# Altium footprint library con-leotronics.PCBLIB: 93 footprints (part 7 of 8)
Each footprint in its own frame and in the unit in brackets; x right, y up, seen from the top. Pads: shape width x height; smd on the part's side, far side on the other; paste and mask are expansions set on the pad; w line width, h text height; cw(c..) or ccw(c..) is an arc to the next point about the centre after c.
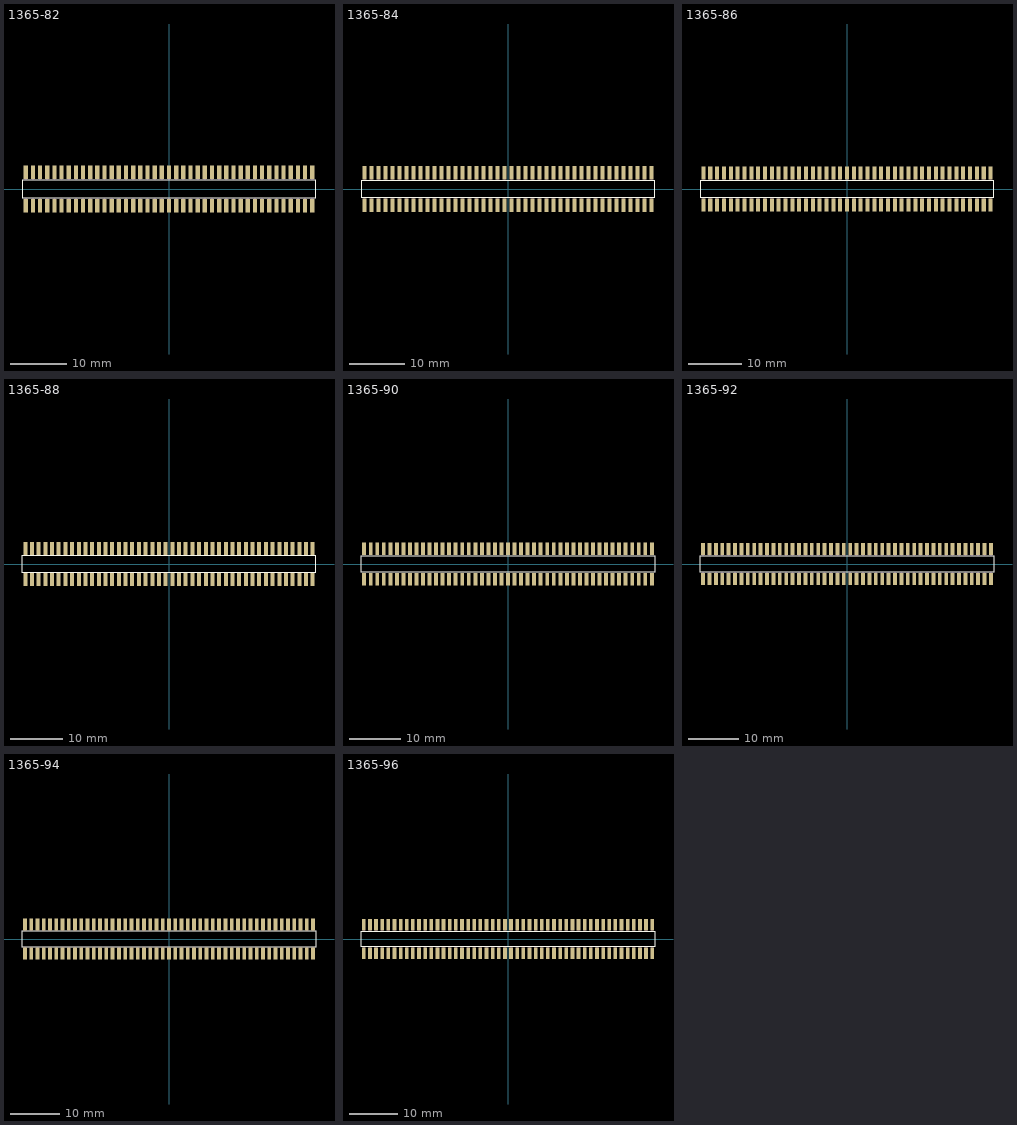
[diagram p6: the footprints below, top view; thin cyan lines are the x and y axes]

## 1365-82 [mm]
pads (82):
  rect 0.76x2.4 smd: 1(-25.4,-2.95) 2(-25.4,2.95) 3(-24.13,-2.95) 4(-24.13,2.95) 5(-22.86,-2.95) 6(-22.86,2.95) 7(-21.59,-2.95) 8(-21.59,2.95) 9(-20.32,-2.95) 10(-20.32,2.95) 11(-19.05,-2.95) 12(-19.05,2.95) 13(-17.78,-2.95) 14(-17.78,2.95) 15(-16.51,-2.95) 16(-16.51,2.95) 17(-15.24,-2.95) 18(-15.24,2.95) 19(-13.97,-2.95) 20(-13.97,2.95) 21(-12.7,-2.95) 22(-12.7,2.95) 23(-11.43,-2.95) 24(-11.43,2.95) 25(-10.16,-2.95) 26(-10.16,2.95) 27(-8.89,-2.95) 28(-8.89,2.95) 29(-7.62,-2.95) 30(-7.62,2.95) 31(-6.35,-2.95) 32(-6.35,2.95) 33(-5.08,-2.95) 34(-5.08,2.95) 35(-3.81,-2.95) 36(-3.81,2.95) 37(-2.54,-2.95) 38(-2.54,2.95) 39(-1.27,-2.95) 40(-1.27,2.95) 41(0,-2.95) 42(0,2.95) 43(1.27,-2.95) 44(1.27,2.95) 45(2.54,-2.95) 46(2.54,2.95) 47(3.81,-2.95) 48(3.81,2.95) 49(5.08,-2.95) 50(5.08,2.95) 51(6.35,-2.95) 52(6.35,2.95) 53(7.62,-2.95) 54(7.62,2.95) 55(8.89,-2.95) 56(8.89,2.95) 57(10.16,-2.95) 58(10.16,2.95) 59(11.43,-2.95) 60(11.43,2.95) 61(12.7,-2.95) 62(12.7,2.95) 63(13.97,-2.95) 64(13.97,2.95) 65(15.24,-2.95) 66(15.24,2.95) 67(16.51,-2.95) 68(16.51,2.95) 69(17.78,-2.95) 70(17.78,2.95) 71(19.05,-2.95) 72(19.05,2.95) 73(20.32,-2.95) 74(20.32,2.95) 75(21.59,-2.95) 76(21.59,2.95) 77(22.86,-2.95) 78(22.86,2.95) 79(24.13,-2.95) 80(24.13,2.95) 81(25.4,-2.95) 82(25.4,2.95)
Top Overlay:
  lines w0.203: -25.935,-1.63 25.93,-1.63 25.93,1.63 -25.935,1.63 -25.935,-1.63
Mechanical 16:
  rectangle: -25.6,1.725 -25.2,2.75
  region: -25.2,-1.725 -25.6,-1.725 -25.6,-2.75 -25.2,-2.75
  rectangle: -24.33,1.725 -23.93,2.75
  region: -23.93,-1.725 -24.33,-1.725 -24.33,-2.75 -23.93,-2.75
  rectangle: -23.06,1.725 -22.66,2.75
  region: -22.66,-1.725 -23.06,-1.725 -23.06,-2.75 -22.66,-2.75
  rectangle: -21.79,1.725 -21.39,2.75
  region: -21.39,-1.725 -21.79,-1.725 -21.79,-2.75 -21.39,-2.75
  rectangle: -20.52,1.725 -20.12,2.75
  region: -20.12,-1.725 -20.52,-1.725 -20.52,-2.75 -20.12,-2.75
  rectangle: -19.25,1.725 -18.85,2.75
  region: -18.85,-1.725 -19.25,-1.725 -19.25,-2.75 -18.85,-2.75
  rectangle: -17.98,1.725 -17.58,2.75
  region: -17.58,-1.725 -17.98,-1.725 -17.98,-2.75 -17.58,-2.75
  rectangle: -16.71,1.725 -16.31,2.75
  region: -16.31,-1.725 -16.71,-1.725 -16.71,-2.75 -16.31,-2.75
  rectangle: -15.44,1.725 -15.04,2.75
  region: -15.04,-1.725 -15.44,-1.725 -15.44,-2.75 -15.04,-2.75
  rectangle: -14.17,1.725 -13.77,2.75
  region: -13.77,-1.725 -14.17,-1.725 -14.17,-2.75 -13.77,-2.75
  rectangle: -12.9,1.725 -12.5,2.75
  region: -12.5,-1.725 -12.9,-1.725 -12.9,-2.75 -12.5,-2.75
  rectangle: -11.63,1.725 -11.23,2.75
  region: -11.23,-1.725 -11.63,-1.725 -11.63,-2.75 -11.23,-2.75
  rectangle: -10.36,1.725 -9.96,2.75
  region: -9.96,-1.725 -10.36,-1.725 -10.36,-2.75 -9.96,-2.75
  rectangle: -9.09,1.725 -8.69,2.75
  region: -8.69,-1.725 -9.09,-1.725 -9.09,-2.75 -8.69,-2.75
  rectangle: -7.82,1.725 -7.42,2.75
  region: -7.42,-1.725 -7.82,-1.725 -7.82,-2.75 -7.42,-2.75
  rectangle: -6.55,1.725 -6.15,2.75
  region: -6.15,-1.725 -6.55,-1.725 -6.55,-2.75 -6.15,-2.75
  rectangle: -5.28,1.725 -4.88,2.75
  region: -4.88,-1.725 -5.28,-1.725 -5.28,-2.75 -4.88,-2.75
  rectangle: -4.01,1.725 -3.61,2.75
  region: -3.61,-1.725 -4.01,-1.725 -4.01,-2.75 -3.61,-2.75
  rectangle: -2.74,1.725 -2.34,2.75
  region: -2.34,-1.725 -2.74,-1.725 -2.74,-2.75 -2.34,-2.75
  rectangle: -1.47,1.725 -1.07,2.75
  region: -1.07,-1.725 -1.47,-1.725 -1.47,-2.75 -1.07,-2.75
  rectangle: -0.2,1.725 0.2,2.75
  region: 0.2,-1.725 -0.2,-1.725 -0.2,-2.75 0.2,-2.75
  rectangle: 1.07,1.725 1.47,2.75
  region: 1.47,-1.725 1.07,-1.725 1.07,-2.75 1.47,-2.75
  rectangle: 2.34,1.725 2.74,2.75
  region: 2.74,-1.725 2.34,-1.725 2.34,-2.75 2.74,-2.75
  rectangle: 3.61,1.725 4.01,2.75
  region: 4.01,-1.725 3.61,-1.725 3.61,-2.75 4.01,-2.75
  rectangle: 4.88,1.725 5.28,2.75
  region: 5.28,-1.725 4.88,-1.725 4.88,-2.75 5.28,-2.75
  rectangle: 6.15,1.725 6.55,2.75
  region: 6.55,-1.725 6.15,-1.725 6.15,-2.75 6.55,-2.75
  rectangle: 7.42,1.725 7.82,2.75
  region: 7.82,-1.725 7.42,-1.725 7.42,-2.75 7.82,-2.75
  rectangle: 8.69,1.725 9.09,2.75
  region: 9.09,-1.725 8.69,-1.725 8.69,-2.75 9.09,-2.75
  rectangle: 9.96,1.725 10.36,2.75
  region: 10.36,-1.725 9.96,-1.725 9.96,-2.75 10.36,-2.75
  rectangle: 11.23,1.725 11.63,2.75
  region: 11.63,-1.725 11.23,-1.725 11.23,-2.75 11.63,-2.75
  rectangle: 12.5,1.725 12.9,2.75
  region: 12.9,-1.725 12.5,-1.725 12.5,-2.75 12.9,-2.75
  rectangle: 13.77,1.725 14.17,2.75
  region: 14.17,-1.725 13.77,-1.725 13.77,-2.75 14.17,-2.75
  rectangle: 15.04,1.725 15.44,2.75
  region: 15.44,-1.725 15.04,-1.725 15.04,-2.75 15.44,-2.75
  rectangle: 16.31,1.725 16.71,2.75
  region: 16.71,-1.725 16.31,-1.725 16.31,-2.75 16.71,-2.75
  rectangle: 17.58,1.725 17.98,2.75
  region: 17.98,-1.725 17.58,-1.725 17.58,-2.75 17.98,-2.75
  rectangle: 18.85,1.725 19.25,2.75
  region: 19.25,-1.725 18.85,-1.725 18.85,-2.75 19.25,-2.75
  rectangle: 20.12,1.725 20.52,2.75
  region: 20.52,-1.725 20.12,-1.725 20.12,-2.75 20.52,-2.75
  rectangle: 21.39,1.725 21.79,2.75
  region: 21.79,-1.725 21.39,-1.725 21.39,-2.75 21.79,-2.75
  rectangle: 22.66,1.725 23.06,2.75
  region: 23.06,-1.725 22.66,-1.725 22.66,-2.75 23.06,-2.75
  rectangle: 23.93,1.725 24.33,2.75
  region: 24.33,-1.725 23.93,-1.725 23.93,-2.75 24.33,-2.75
  rectangle: 25.2,1.725 25.6,2.75
  region: 25.6,-1.725 25.2,-1.725 25.2,-2.75 25.6,-2.75

## 1365-84 [mm]
pads (84):
  rect 0.76x2.4 smd: 1(-26.035,-2.95) 2(-26.035,2.95) 3(-24.765,-2.95) 4(-24.765,2.95) 5(-23.495,-2.95) 6(-23.495,2.95) 7(-22.225,-2.95) 8(-22.225,2.95) 9(-20.955,-2.95) 10(-20.955,2.95) 11(-19.685,-2.95) 12(-19.685,2.95) 13(-18.415,-2.95) 14(-18.415,2.95) 15(-17.145,-2.95) 16(-17.145,2.95) 17(-15.875,-2.95) 18(-15.875,2.95) 19(-14.605,-2.95) 20(-14.605,2.95) 21(-13.335,-2.95) 22(-13.335,2.95) 23(-12.065,-2.95) 24(-12.065,2.95) 25(-10.795,-2.95) 26(-10.795,2.95) 27(-9.525,-2.95) 28(-9.525,2.95) 29(-8.255,-2.95) 30(-8.255,2.95) 31(-6.985,-2.95) 32(-6.985,2.95) 33(-5.715,-2.95) 34(-5.715,2.95) 35(-4.445,-2.95) 36(-4.445,2.95) 37(-3.175,-2.95) 38(-3.175,2.95) 39(-1.905,-2.95) 40(-1.905,2.95) 41(-0.635,-2.95) 42(-0.635,2.95) 43(0.635,-2.95) 44(0.635,2.95) 45(1.905,-2.95) 46(1.905,2.95) 47(3.175,-2.95) 48(3.175,2.95) 49(4.445,-2.95) 50(4.445,2.95) 51(5.715,-2.95) 52(5.715,2.95) 53(6.985,-2.95) 54(6.985,2.95) 55(8.255,-2.95) 56(8.255,2.95) 57(9.525,-2.95) 58(9.525,2.95) 59(10.795,-2.95) 60(10.795,2.95) 61(12.065,-2.95) 62(12.065,2.95) 63(13.335,-2.95) 64(13.335,2.95) 65(14.605,-2.95) 66(14.605,2.95) 67(15.875,-2.95) 68(15.875,2.95) 69(17.145,-2.95) 70(17.145,2.95) 71(18.415,-2.95) 72(18.415,2.95) 73(19.685,-2.95) 74(19.685,2.95) 75(20.955,-2.95) 76(20.955,2.95) 77(22.225,-2.95) 78(22.225,2.95) 79(23.495,-2.95) 80(23.495,2.95) 81(24.765,-2.95) 82(24.765,2.95) 83(26.035,-2.95) 84(26.035,2.95)
Top Overlay:
  lines w0.203: -26.57,-1.63 26.565,-1.63 26.565,1.63 -26.57,1.63 -26.57,-1.63
Mechanical 16:
  rectangle: -26.235,1.725 -25.835,2.75
  region: -25.835,-1.725 -26.235,-1.725 -26.235,-2.75 -25.835,-2.75
  rectangle: -24.965,1.725 -24.565,2.75
  region: -24.565,-1.725 -24.965,-1.725 -24.965,-2.75 -24.565,-2.75
  rectangle: -23.695,1.725 -23.295,2.75
  region: -23.295,-1.725 -23.695,-1.725 -23.695,-2.75 -23.295,-2.75
  rectangle: -22.425,1.725 -22.025,2.75
  region: -22.025,-1.725 -22.425,-1.725 -22.425,-2.75 -22.025,-2.75
  rectangle: -21.155,1.725 -20.755,2.75
  region: -20.755,-1.725 -21.155,-1.725 -21.155,-2.75 -20.755,-2.75
  rectangle: -19.885,1.725 -19.485,2.75
  region: -19.485,-1.725 -19.885,-1.725 -19.885,-2.75 -19.485,-2.75
  rectangle: -18.615,1.725 -18.215,2.75
  region: -18.215,-1.725 -18.615,-1.725 -18.615,-2.75 -18.215,-2.75
  rectangle: -17.345,1.725 -16.945,2.75
  region: -16.945,-1.725 -17.345,-1.725 -17.345,-2.75 -16.945,-2.75
  rectangle: -16.075,1.725 -15.675,2.75
  region: -15.675,-1.725 -16.075,-1.725 -16.075,-2.75 -15.675,-2.75
  rectangle: -14.805,1.725 -14.405,2.75
  region: -14.405,-1.725 -14.805,-1.725 -14.805,-2.75 -14.405,-2.75
  rectangle: -13.535,1.725 -13.135,2.75
  region: -13.135,-1.725 -13.535,-1.725 -13.535,-2.75 -13.135,-2.75
  rectangle: -12.265,1.725 -11.865,2.75
  region: -11.865,-1.725 -12.265,-1.725 -12.265,-2.75 -11.865,-2.75
  rectangle: -10.995,1.725 -10.595,2.75
  region: -10.595,-1.725 -10.995,-1.725 -10.995,-2.75 -10.595,-2.75
  rectangle: -9.725,1.725 -9.325,2.75
  region: -9.325,-1.725 -9.725,-1.725 -9.725,-2.75 -9.325,-2.75
  rectangle: -8.455,1.725 -8.055,2.75
  region: -8.055,-1.725 -8.455,-1.725 -8.455,-2.75 -8.055,-2.75
  rectangle: -7.185,1.725 -6.785,2.75
  region: -6.785,-1.725 -7.185,-1.725 -7.185,-2.75 -6.785,-2.75
  rectangle: -5.915,1.725 -5.515,2.75
  region: -5.515,-1.725 -5.915,-1.725 -5.915,-2.75 -5.515,-2.75
  rectangle: -4.645,1.725 -4.245,2.75
  region: -4.245,-1.725 -4.645,-1.725 -4.645,-2.75 -4.245,-2.75
  rectangle: -3.375,1.725 -2.975,2.75
  region: -2.975,-1.725 -3.375,-1.725 -3.375,-2.75 -2.975,-2.75
  rectangle: -2.105,1.725 -1.705,2.75
  region: -1.705,-1.725 -2.105,-1.725 -2.105,-2.75 -1.705,-2.75
  rectangle: -0.835,1.725 -0.435,2.75
  region: -0.435,-1.725 -0.835,-1.725 -0.835,-2.75 -0.435,-2.75
  rectangle: 0.435,1.725 0.835,2.75
  region: 0.835,-1.725 0.435,-1.725 0.435,-2.75 0.835,-2.75
  rectangle: 1.705,1.725 2.105,2.75
  region: 2.105,-1.725 1.705,-1.725 1.705,-2.75 2.105,-2.75
  rectangle: 2.975,1.725 3.375,2.75
  region: 3.375,-1.725 2.975,-1.725 2.975,-2.75 3.375,-2.75
  rectangle: 4.245,1.725 4.645,2.75
  region: 4.645,-1.725 4.245,-1.725 4.245,-2.75 4.645,-2.75
  rectangle: 5.515,1.725 5.915,2.75
  region: 5.915,-1.725 5.515,-1.725 5.515,-2.75 5.915,-2.75
  rectangle: 6.785,1.725 7.185,2.75
  region: 7.185,-1.725 6.785,-1.725 6.785,-2.75 7.185,-2.75
  rectangle: 8.055,1.725 8.455,2.75
  region: 8.455,-1.725 8.055,-1.725 8.055,-2.75 8.455,-2.75
  rectangle: 9.325,1.725 9.725,2.75
  region: 9.725,-1.725 9.325,-1.725 9.325,-2.75 9.725,-2.75
  rectangle: 10.595,1.725 10.995,2.75
  region: 10.995,-1.725 10.595,-1.725 10.595,-2.75 10.995,-2.75
  rectangle: 11.865,1.725 12.265,2.75
  region: 12.265,-1.725 11.865,-1.725 11.865,-2.75 12.265,-2.75
  rectangle: 13.135,1.725 13.535,2.75
  region: 13.535,-1.725 13.135,-1.725 13.135,-2.75 13.535,-2.75
  rectangle: 14.405,1.725 14.805,2.75
  region: 14.805,-1.725 14.405,-1.725 14.405,-2.75 14.805,-2.75
  rectangle: 15.675,1.725 16.075,2.75
  region: 16.075,-1.725 15.675,-1.725 15.675,-2.75 16.075,-2.75
  rectangle: 16.945,1.725 17.345,2.75
  region: 17.345,-1.725 16.945,-1.725 16.945,-2.75 17.345,-2.75
  rectangle: 18.215,1.725 18.615,2.75
  region: 18.615,-1.725 18.215,-1.725 18.215,-2.75 18.615,-2.75
  rectangle: 19.485,1.725 19.885,2.75
  region: 19.885,-1.725 19.485,-1.725 19.485,-2.75 19.885,-2.75
  rectangle: 20.755,1.725 21.155,2.75
  region: 21.155,-1.725 20.755,-1.725 20.755,-2.75 21.155,-2.75
  rectangle: 22.025,1.725 22.425,2.75
  region: 22.425,-1.725 22.025,-1.725 22.025,-2.75 22.425,-2.75
  rectangle: 23.295,1.725 23.695,2.75
  region: 23.695,-1.725 23.295,-1.725 23.295,-2.75 23.695,-2.75
  rectangle: 24.565,1.725 24.965,2.75
  region: 24.965,-1.725 24.565,-1.725 24.565,-2.75 24.965,-2.75
  rectangle: 25.835,1.725 26.235,2.75
  region: 26.235,-1.725 25.835,-1.725 25.835,-2.75 26.235,-2.75

## 1365-86 [mm]
pads (86):
  rect 0.76x2.4 smd: 1(-26.67,-2.95) 2(-26.67,2.95) 3(-25.4,-2.95) 4(-25.4,2.95) 5(-24.13,-2.95) 6(-24.13,2.95) 7(-22.86,-2.95) 8(-22.86,2.95) 9(-21.59,-2.95) 10(-21.59,2.95) 11(-20.32,-2.95) 12(-20.32,2.95) 13(-19.05,-2.95) 14(-19.05,2.95) 15(-17.78,-2.95) 16(-17.78,2.95) 17(-16.51,-2.95) 18(-16.51,2.95) 19(-15.24,-2.95) 20(-15.24,2.95) 21(-13.97,-2.95) 22(-13.97,2.95) 23(-12.7,-2.95) 24(-12.7,2.95) 25(-11.43,-2.95) 26(-11.43,2.95) 27(-10.16,-2.95) 28(-10.16,2.95) 29(-8.89,-2.95) 30(-8.89,2.95) 31(-7.62,-2.95) 32(-7.62,2.95) 33(-6.35,-2.95) 34(-6.35,2.95) 35(-5.08,-2.95) 36(-5.08,2.95) 37(-3.81,-2.95) 38(-3.81,2.95) 39(-2.54,-2.95) 40(-2.54,2.95) 41(-1.27,-2.95) 42(-1.27,2.95) 43(0,-2.95) 44(0,2.95) 45(1.27,-2.95) 46(1.27,2.95) 47(2.54,-2.95) 48(2.54,2.95) 49(3.81,-2.95) 50(3.81,2.95) 51(5.08,-2.95) 52(5.08,2.95) 53(6.35,-2.95) 54(6.35,2.95) 55(7.62,-2.95) 56(7.62,2.95) 57(8.89,-2.95) 58(8.89,2.95) 59(10.16,-2.95) 60(10.16,2.95) 61(11.43,-2.95) 62(11.43,2.95) 63(12.7,-2.95) 64(12.7,2.95) 65(13.97,-2.95) 66(13.97,2.95) 67(15.24,-2.95) 68(15.24,2.95) 69(16.51,-2.95) 70(16.51,2.95) 71(17.78,-2.95) 72(17.78,2.95) 73(19.05,-2.95) 74(19.05,2.95) 75(20.32,-2.95) 76(20.32,2.95) 77(21.59,-2.95) 78(21.59,2.95) 79(22.86,-2.95) 80(22.86,2.95) 81(24.13,-2.95) 82(24.13,2.95) 83(25.4,-2.95) 84(25.4,2.95) 85(26.67,-2.95) 86(26.67,2.95)
Top Overlay:
  lines w0.203: -27.205,-1.63 27.2,-1.63 27.2,1.63 -27.205,1.63 -27.205,-1.63
Mechanical 16:
  rectangle: -26.87,1.725 -26.47,2.75
  region: -26.47,-1.725 -26.87,-1.725 -26.87,-2.75 -26.47,-2.75
  rectangle: -25.6,1.725 -25.2,2.75
  region: -25.2,-1.725 -25.6,-1.725 -25.6,-2.75 -25.2,-2.75
  rectangle: -24.33,1.725 -23.93,2.75
  region: -23.93,-1.725 -24.33,-1.725 -24.33,-2.75 -23.93,-2.75
  rectangle: -23.06,1.725 -22.66,2.75
  region: -22.66,-1.725 -23.06,-1.725 -23.06,-2.75 -22.66,-2.75
  rectangle: -21.79,1.725 -21.39,2.75
  region: -21.39,-1.725 -21.79,-1.725 -21.79,-2.75 -21.39,-2.75
  rectangle: -20.52,1.725 -20.12,2.75
  region: -20.12,-1.725 -20.52,-1.725 -20.52,-2.75 -20.12,-2.75
  rectangle: -19.25,1.725 -18.85,2.75
  region: -18.85,-1.725 -19.25,-1.725 -19.25,-2.75 -18.85,-2.75
  rectangle: -17.98,1.725 -17.58,2.75
  region: -17.58,-1.725 -17.98,-1.725 -17.98,-2.75 -17.58,-2.75
  rectangle: -16.71,1.725 -16.31,2.75
  region: -16.31,-1.725 -16.71,-1.725 -16.71,-2.75 -16.31,-2.75
  rectangle: -15.44,1.725 -15.04,2.75
  region: -15.04,-1.725 -15.44,-1.725 -15.44,-2.75 -15.04,-2.75
  rectangle: -14.17,1.725 -13.77,2.75
  region: -13.77,-1.725 -14.17,-1.725 -14.17,-2.75 -13.77,-2.75
  rectangle: -12.9,1.725 -12.5,2.75
  region: -12.5,-1.725 -12.9,-1.725 -12.9,-2.75 -12.5,-2.75
  rectangle: -11.63,1.725 -11.23,2.75
  region: -11.23,-1.725 -11.63,-1.725 -11.63,-2.75 -11.23,-2.75
  rectangle: -10.36,1.725 -9.96,2.75
  region: -9.96,-1.725 -10.36,-1.725 -10.36,-2.75 -9.96,-2.75
  rectangle: -9.09,1.725 -8.69,2.75
  region: -8.69,-1.725 -9.09,-1.725 -9.09,-2.75 -8.69,-2.75
  rectangle: -7.82,1.725 -7.42,2.75
  region: -7.42,-1.725 -7.82,-1.725 -7.82,-2.75 -7.42,-2.75
  rectangle: -6.55,1.725 -6.15,2.75
  region: -6.15,-1.725 -6.55,-1.725 -6.55,-2.75 -6.15,-2.75
  rectangle: -5.28,1.725 -4.88,2.75
  region: -4.88,-1.725 -5.28,-1.725 -5.28,-2.75 -4.88,-2.75
  rectangle: -4.01,1.725 -3.61,2.75
  region: -3.61,-1.725 -4.01,-1.725 -4.01,-2.75 -3.61,-2.75
  rectangle: -2.74,1.725 -2.34,2.75
  region: -2.34,-1.725 -2.74,-1.725 -2.74,-2.75 -2.34,-2.75
  rectangle: -1.47,1.725 -1.07,2.75
  region: -1.07,-1.725 -1.47,-1.725 -1.47,-2.75 -1.07,-2.75
  rectangle: -0.2,1.725 0.2,2.75
  region: 0.2,-1.725 -0.2,-1.725 -0.2,-2.75 0.2,-2.75
  rectangle: 1.07,1.725 1.47,2.75
  region: 1.47,-1.725 1.07,-1.725 1.07,-2.75 1.47,-2.75
  rectangle: 2.34,1.725 2.74,2.75
  region: 2.74,-1.725 2.34,-1.725 2.34,-2.75 2.74,-2.75
  rectangle: 3.61,1.725 4.01,2.75
  region: 4.01,-1.725 3.61,-1.725 3.61,-2.75 4.01,-2.75
  rectangle: 4.88,1.725 5.28,2.75
  region: 5.28,-1.725 4.88,-1.725 4.88,-2.75 5.28,-2.75
  rectangle: 6.15,1.725 6.55,2.75
  region: 6.55,-1.725 6.15,-1.725 6.15,-2.75 6.55,-2.75
  rectangle: 7.42,1.725 7.82,2.75
  region: 7.82,-1.725 7.42,-1.725 7.42,-2.75 7.82,-2.75
  rectangle: 8.69,1.725 9.09,2.75
  region: 9.09,-1.725 8.69,-1.725 8.69,-2.75 9.09,-2.75
  rectangle: 9.96,1.725 10.36,2.75
  region: 10.36,-1.725 9.96,-1.725 9.96,-2.75 10.36,-2.75
  rectangle: 11.23,1.725 11.63,2.75
  region: 11.63,-1.725 11.23,-1.725 11.23,-2.75 11.63,-2.75
  rectangle: 12.5,1.725 12.9,2.75
  region: 12.9,-1.725 12.5,-1.725 12.5,-2.75 12.9,-2.75
  rectangle: 13.77,1.725 14.17,2.75
  region: 14.17,-1.725 13.77,-1.725 13.77,-2.75 14.17,-2.75
  rectangle: 15.04,1.725 15.44,2.75
  region: 15.44,-1.725 15.04,-1.725 15.04,-2.75 15.44,-2.75
  rectangle: 16.31,1.725 16.71,2.75
  region: 16.71,-1.725 16.31,-1.725 16.31,-2.75 16.71,-2.75
  rectangle: 17.58,1.725 17.98,2.75
  region: 17.98,-1.725 17.58,-1.725 17.58,-2.75 17.98,-2.75
  rectangle: 18.85,1.725 19.25,2.75
  region: 19.25,-1.725 18.85,-1.725 18.85,-2.75 19.25,-2.75
  rectangle: 20.12,1.725 20.52,2.75
  region: 20.52,-1.725 20.12,-1.725 20.12,-2.75 20.52,-2.75
  rectangle: 21.39,1.725 21.79,2.75
  region: 21.79,-1.725 21.39,-1.725 21.39,-2.75 21.79,-2.75
  rectangle: 22.66,1.725 23.06,2.75
  region: 23.06,-1.725 22.66,-1.725 22.66,-2.75 23.06,-2.75
  rectangle: 23.93,1.725 24.33,2.75
  region: 24.33,-1.725 23.93,-1.725 23.93,-2.75 24.33,-2.75
  rectangle: 25.2,1.725 25.6,2.75
  region: 25.6,-1.725 25.2,-1.725 25.2,-2.75 25.6,-2.75
  rectangle: 26.47,1.725 26.87,2.75
  region: 26.87,-1.725 26.47,-1.725 26.47,-2.75 26.87,-2.75

## 1365-88 [mm]
pads (88):
  rect 0.76x2.4 smd: 1(-27.305,-2.95) 2(-27.305,2.95) 3(-26.035,-2.95) 4(-26.035,2.95) 5(-24.765,-2.95) 6(-24.765,2.95) 7(-23.495,-2.95) 8(-23.495,2.95) 9(-22.225,-2.95) 10(-22.225,2.95) 11(-20.955,-2.95) 12(-20.955,2.95) 13(-19.685,-2.95) 14(-19.685,2.95) 15(-18.415,-2.95) 16(-18.415,2.95) 17(-17.145,-2.95) 18(-17.145,2.95) 19(-15.875,-2.95) 20(-15.875,2.95) 21(-14.605,-2.95) 22(-14.605,2.95) 23(-13.335,-2.95) 24(-13.335,2.95) 25(-12.065,-2.95) 26(-12.065,2.95) 27(-10.795,-2.95) 28(-10.795,2.95) 29(-9.525,-2.95) 30(-9.525,2.95) 31(-8.255,-2.95) 32(-8.255,2.95) 33(-6.985,-2.95) 34(-6.985,2.95) 35(-5.715,-2.95) 36(-5.715,2.95) 37(-4.445,-2.95) 38(-4.445,2.95) 39(-3.175,-2.95) 40(-3.175,2.95) 41(-1.905,-2.95) 42(-1.905,2.95) 43(-0.635,-2.95) 44(-0.635,2.95) 45(0.635,-2.95) 46(0.635,2.95) 47(1.905,-2.95) 48(1.905,2.95) 49(3.175,-2.95) 50(3.175,2.95) 51(4.445,-2.95) 52(4.445,2.95) 53(5.715,-2.95) 54(5.715,2.95) 55(6.985,-2.95) 56(6.985,2.95) 57(8.255,-2.95) 58(8.255,2.95) 59(9.525,-2.95) 60(9.525,2.95) 61(10.795,-2.95) 62(10.795,2.95) 63(12.065,-2.95) 64(12.065,2.95) 65(13.335,-2.95) 66(13.335,2.95) 67(14.605,-2.95) 68(14.605,2.95) 69(15.875,-2.95) 70(15.875,2.95) 71(17.145,-2.95) 72(17.145,2.95) 73(18.415,-2.95) 74(18.415,2.95) 75(19.685,-2.95) 76(19.685,2.95) 77(20.955,-2.95) 78(20.955,2.95) 79(22.225,-2.95) 80(22.225,2.95) 81(23.495,-2.95) 82(23.495,2.95) 83(24.765,-2.95) 84(24.765,2.95) 85(26.035,-2.95) 86(26.035,2.95) 87(27.305,-2.95) 88(27.305,2.95)
Top Overlay:
  lines w0.203: -27.84,-1.63 27.835,-1.63 27.835,1.63 -27.84,1.63 -27.84,-1.63
Mechanical 16:
  rectangle: -27.505,1.725 -27.105,2.75
  region: -27.105,-1.725 -27.505,-1.725 -27.505,-2.75 -27.105,-2.75
  rectangle: -26.235,1.725 -25.835,2.75
  region: -25.835,-1.725 -26.235,-1.725 -26.235,-2.75 -25.835,-2.75
  rectangle: -24.965,1.725 -24.565,2.75
  region: -24.565,-1.725 -24.965,-1.725 -24.965,-2.75 -24.565,-2.75
  rectangle: -23.695,1.725 -23.295,2.75
  region: -23.295,-1.725 -23.695,-1.725 -23.695,-2.75 -23.295,-2.75
  rectangle: -22.425,1.725 -22.025,2.75
  region: -22.025,-1.725 -22.425,-1.725 -22.425,-2.75 -22.025,-2.75
  rectangle: -21.155,1.725 -20.755,2.75
  region: -20.755,-1.725 -21.155,-1.725 -21.155,-2.75 -20.755,-2.75
  rectangle: -19.885,1.725 -19.485,2.75
  region: -19.485,-1.725 -19.885,-1.725 -19.885,-2.75 -19.485,-2.75
  rectangle: -18.615,1.725 -18.215,2.75
  region: -18.215,-1.725 -18.615,-1.725 -18.615,-2.75 -18.215,-2.75
  rectangle: -17.345,1.725 -16.945,2.75
  region: -16.945,-1.725 -17.345,-1.725 -17.345,-2.75 -16.945,-2.75
  rectangle: -16.075,1.725 -15.675,2.75
  region: -15.675,-1.725 -16.075,-1.725 -16.075,-2.75 -15.675,-2.75
  rectangle: -14.805,1.725 -14.405,2.75
  region: -14.405,-1.725 -14.805,-1.725 -14.805,-2.75 -14.405,-2.75
  rectangle: -13.535,1.725 -13.135,2.75
  region: -13.135,-1.725 -13.535,-1.725 -13.535,-2.75 -13.135,-2.75
  rectangle: -12.265,1.725 -11.865,2.75
  region: -11.865,-1.725 -12.265,-1.725 -12.265,-2.75 -11.865,-2.75
  rectangle: -10.995,1.725 -10.595,2.75
  region: -10.595,-1.725 -10.995,-1.725 -10.995,-2.75 -10.595,-2.75
  rectangle: -9.725,1.725 -9.325,2.75
  region: -9.325,-1.725 -9.725,-1.725 -9.725,-2.75 -9.325,-2.75
  rectangle: -8.455,1.725 -8.055,2.75
  region: -8.055,-1.725 -8.455,-1.725 -8.455,-2.75 -8.055,-2.75
  rectangle: -7.185,1.725 -6.785,2.75
  region: -6.785,-1.725 -7.185,-1.725 -7.185,-2.75 -6.785,-2.75
  rectangle: -5.915,1.725 -5.515,2.75
  region: -5.515,-1.725 -5.915,-1.725 -5.915,-2.75 -5.515,-2.75
  rectangle: -4.645,1.725 -4.245,2.75
  region: -4.245,-1.725 -4.645,-1.725 -4.645,-2.75 -4.245,-2.75
  rectangle: -3.375,1.725 -2.975,2.75
  region: -2.975,-1.725 -3.375,-1.725 -3.375,-2.75 -2.975,-2.75
  rectangle: -2.105,1.725 -1.705,2.75
  region: -1.705,-1.725 -2.105,-1.725 -2.105,-2.75 -1.705,-2.75
  rectangle: -0.835,1.725 -0.435,2.75
  region: -0.435,-1.725 -0.835,-1.725 -0.835,-2.75 -0.435,-2.75
  rectangle: 0.435,1.725 0.835,2.75
  region: 0.835,-1.725 0.435,-1.725 0.435,-2.75 0.835,-2.75
  rectangle: 1.705,1.725 2.105,2.75
  region: 2.105,-1.725 1.705,-1.725 1.705,-2.75 2.105,-2.75
  rectangle: 2.975,1.725 3.375,2.75
  region: 3.375,-1.725 2.975,-1.725 2.975,-2.75 3.375,-2.75
  rectangle: 4.245,1.725 4.645,2.75
  region: 4.645,-1.725 4.245,-1.725 4.245,-2.75 4.645,-2.75
  rectangle: 5.515,1.725 5.915,2.75
  region: 5.915,-1.725 5.515,-1.725 5.515,-2.75 5.915,-2.75
  rectangle: 6.785,1.725 7.185,2.75
  region: 7.185,-1.725 6.785,-1.725 6.785,-2.75 7.185,-2.75
  rectangle: 8.055,1.725 8.455,2.75
  region: 8.455,-1.725 8.055,-1.725 8.055,-2.75 8.455,-2.75
  rectangle: 9.325,1.725 9.725,2.75
  region: 9.725,-1.725 9.325,-1.725 9.325,-2.75 9.725,-2.75
  rectangle: 10.595,1.725 10.995,2.75
  region: 10.995,-1.725 10.595,-1.725 10.595,-2.75 10.995,-2.75
  rectangle: 11.865,1.725 12.265,2.75
  region: 12.265,-1.725 11.865,-1.725 11.865,-2.75 12.265,-2.75
  rectangle: 13.135,1.725 13.535,2.75
  region: 13.535,-1.725 13.135,-1.725 13.135,-2.75 13.535,-2.75
  rectangle: 14.405,1.725 14.805,2.75
  region: 14.805,-1.725 14.405,-1.725 14.405,-2.75 14.805,-2.75
  rectangle: 15.675,1.725 16.075,2.75
  region: 16.075,-1.725 15.675,-1.725 15.675,-2.75 16.075,-2.75
  rectangle: 16.945,1.725 17.345,2.75
  region: 17.345,-1.725 16.945,-1.725 16.945,-2.75 17.345,-2.75
  rectangle: 18.215,1.725 18.615,2.75
  region: 18.615,-1.725 18.215,-1.725 18.215,-2.75 18.615,-2.75
  rectangle: 19.485,1.725 19.885,2.75
  region: 19.885,-1.725 19.485,-1.725 19.485,-2.75 19.885,-2.75
  rectangle: 20.755,1.725 21.155,2.75
  region: 21.155,-1.725 20.755,-1.725 20.755,-2.75 21.155,-2.75
  rectangle: 22.025,1.725 22.425,2.75
  region: 22.425,-1.725 22.025,-1.725 22.025,-2.75 22.425,-2.75
  rectangle: 23.295,1.725 23.695,2.75
  region: 23.695,-1.725 23.295,-1.725 23.295,-2.75 23.695,-2.75
  rectangle: 24.565,1.725 24.965,2.75
  region: 24.965,-1.725 24.565,-1.725 24.565,-2.75 24.965,-2.75
  rectangle: 25.835,1.725 26.235,2.75
  region: 26.235,-1.725 25.835,-1.725 25.835,-2.75 26.235,-2.75
  rectangle: 27.105,1.725 27.505,2.75
  region: 27.505,-1.725 27.105,-1.725 27.105,-2.75 27.505,-2.75

## 1365-90 [mm]
pads (90):
  rect 0.76x2.4 smd: 1(-27.94,-2.95) 2(-27.94,2.95) 3(-26.67,-2.95) 4(-26.67,2.95) 5(-25.4,-2.95) 6(-25.4,2.95) 7(-24.13,-2.95) 8(-24.13,2.95) 9(-22.86,-2.95) 10(-22.86,2.95) 11(-21.59,-2.95) 12(-21.59,2.95) 13(-20.32,-2.95) 14(-20.32,2.95) 15(-19.05,-2.95) 16(-19.05,2.95) 17(-17.78,-2.95) 18(-17.78,2.95) 19(-16.51,-2.95) 20(-16.51,2.95) 21(-15.24,-2.95) 22(-15.24,2.95) 23(-13.97,-2.95) 24(-13.97,2.95) 25(-12.7,-2.95) 26(-12.7,2.95) 27(-11.43,-2.95) 28(-11.43,2.95) 29(-10.16,-2.95) 30(-10.16,2.95) 31(-8.89,-2.95) 32(-8.89,2.95) 33(-7.62,-2.95) 34(-7.62,2.95) 35(-6.35,-2.95) 36(-6.35,2.95) 37(-5.08,-2.95) 38(-5.08,2.95) 39(-3.81,-2.95) 40(-3.81,2.95) 41(-2.54,-2.95) 42(-2.54,2.95) 43(-1.27,-2.95) 44(-1.27,2.95) 45(0,-2.95) 46(0,2.95) 47(1.27,-2.95) 48(1.27,2.95) 49(2.54,-2.95) 50(2.54,2.95) 51(3.81,-2.95) 52(3.81,2.95) 53(5.08,-2.95) 54(5.08,2.95) 55(6.35,-2.95) 56(6.35,2.95) 57(7.62,-2.95) 58(7.62,2.95) 59(8.89,-2.95) 60(8.89,2.95) 61(10.16,-2.95) 62(10.16,2.95) 63(11.43,-2.95) 64(11.43,2.95) 65(12.7,-2.95) 66(12.7,2.95) 67(13.97,-2.95) 68(13.97,2.95) 69(15.24,-2.95) 70(15.24,2.95) 71(16.51,-2.95) 72(16.51,2.95) 73(17.78,-2.95) 74(17.78,2.95) 75(19.05,-2.95) 76(19.05,2.95) 77(20.32,-2.95) 78(20.32,2.95) 79(21.59,-2.95) 80(21.59,2.95) 81(22.86,-2.95) 82(22.86,2.95) 83(24.13,-2.95) 84(24.13,2.95) 85(25.4,-2.95) 86(25.4,2.95) 87(26.67,-2.95) 88(26.67,2.95) 89(27.94,-2.95) 90(27.94,2.95)
Top Overlay:
  lines w0.203: -28.475,-1.63 28.47,-1.63 28.47,1.63 -28.475,1.63 -28.475,-1.63
Mechanical 16:
  rectangle: -28.14,1.725 -27.74,2.75
  region: -27.74,-1.725 -28.14,-1.725 -28.14,-2.75 -27.74,-2.75
  rectangle: -26.87,1.725 -26.47,2.75
  region: -26.47,-1.725 -26.87,-1.725 -26.87,-2.75 -26.47,-2.75
  rectangle: -25.6,1.725 -25.2,2.75
  region: -25.2,-1.725 -25.6,-1.725 -25.6,-2.75 -25.2,-2.75
  rectangle: -24.33,1.725 -23.93,2.75
  region: -23.93,-1.725 -24.33,-1.725 -24.33,-2.75 -23.93,-2.75
  rectangle: -23.06,1.725 -22.66,2.75
  region: -22.66,-1.725 -23.06,-1.725 -23.06,-2.75 -22.66,-2.75
  rectangle: -21.79,1.725 -21.39,2.75
  region: -21.39,-1.725 -21.79,-1.725 -21.79,-2.75 -21.39,-2.75
  rectangle: -20.52,1.725 -20.12,2.75
  region: -20.12,-1.725 -20.52,-1.725 -20.52,-2.75 -20.12,-2.75
  rectangle: -19.25,1.725 -18.85,2.75
  region: -18.85,-1.725 -19.25,-1.725 -19.25,-2.75 -18.85,-2.75
  rectangle: -17.98,1.725 -17.58,2.75
  region: -17.58,-1.725 -17.98,-1.725 -17.98,-2.75 -17.58,-2.75
  rectangle: -16.71,1.725 -16.31,2.75
  region: -16.31,-1.725 -16.71,-1.725 -16.71,-2.75 -16.31,-2.75
  rectangle: -15.44,1.725 -15.04,2.75
  region: -15.04,-1.725 -15.44,-1.725 -15.44,-2.75 -15.04,-2.75
  rectangle: -14.17,1.725 -13.77,2.75
  region: -13.77,-1.725 -14.17,-1.725 -14.17,-2.75 -13.77,-2.75
  rectangle: -12.9,1.725 -12.5,2.75
  region: -12.5,-1.725 -12.9,-1.725 -12.9,-2.75 -12.5,-2.75
  rectangle: -11.63,1.725 -11.23,2.75
  region: -11.23,-1.725 -11.63,-1.725 -11.63,-2.75 -11.23,-2.75
  rectangle: -10.36,1.725 -9.96,2.75
  region: -9.96,-1.725 -10.36,-1.725 -10.36,-2.75 -9.96,-2.75
  rectangle: -9.09,1.725 -8.69,2.75
  region: -8.69,-1.725 -9.09,-1.725 -9.09,-2.75 -8.69,-2.75
  rectangle: -7.82,1.725 -7.42,2.75
  region: -7.42,-1.725 -7.82,-1.725 -7.82,-2.75 -7.42,-2.75
  rectangle: -6.55,1.725 -6.15,2.75
  region: -6.15,-1.725 -6.55,-1.725 -6.55,-2.75 -6.15,-2.75
  rectangle: -5.28,1.725 -4.88,2.75
  region: -4.88,-1.725 -5.28,-1.725 -5.28,-2.75 -4.88,-2.75
  rectangle: -4.01,1.725 -3.61,2.75
  region: -3.61,-1.725 -4.01,-1.725 -4.01,-2.75 -3.61,-2.75
  rectangle: -2.74,1.725 -2.34,2.75
  region: -2.34,-1.725 -2.74,-1.725 -2.74,-2.75 -2.34,-2.75
  rectangle: -1.47,1.725 -1.07,2.75
  region: -1.07,-1.725 -1.47,-1.725 -1.47,-2.75 -1.07,-2.75
  rectangle: -0.2,1.725 0.2,2.75
  region: 0.2,-1.725 -0.2,-1.725 -0.2,-2.75 0.2,-2.75
  rectangle: 1.07,1.725 1.47,2.75
  region: 1.47,-1.725 1.07,-1.725 1.07,-2.75 1.47,-2.75
  rectangle: 2.34,1.725 2.74,2.75
  region: 2.74,-1.725 2.34,-1.725 2.34,-2.75 2.74,-2.75
  rectangle: 3.61,1.725 4.01,2.75
  region: 4.01,-1.725 3.61,-1.725 3.61,-2.75 4.01,-2.75
  rectangle: 4.88,1.725 5.28,2.75
  region: 5.28,-1.725 4.88,-1.725 4.88,-2.75 5.28,-2.75
  rectangle: 6.15,1.725 6.55,2.75
  region: 6.55,-1.725 6.15,-1.725 6.15,-2.75 6.55,-2.75
  rectangle: 7.42,1.725 7.82,2.75
  region: 7.82,-1.725 7.42,-1.725 7.42,-2.75 7.82,-2.75
  rectangle: 8.69,1.725 9.09,2.75
  region: 9.09,-1.725 8.69,-1.725 8.69,-2.75 9.09,-2.75
  rectangle: 9.96,1.725 10.36,2.75
  region: 10.36,-1.725 9.96,-1.725 9.96,-2.75 10.36,-2.75
  rectangle: 11.23,1.725 11.63,2.75
  region: 11.63,-1.725 11.23,-1.725 11.23,-2.75 11.63,-2.75
  rectangle: 12.5,1.725 12.9,2.75
  region: 12.9,-1.725 12.5,-1.725 12.5,-2.75 12.9,-2.75
  rectangle: 13.77,1.725 14.17,2.75
  region: 14.17,-1.725 13.77,-1.725 13.77,-2.75 14.17,-2.75
  rectangle: 15.04,1.725 15.44,2.75
  region: 15.44,-1.725 15.04,-1.725 15.04,-2.75 15.44,-2.75
  rectangle: 16.31,1.725 16.71,2.75
  region: 16.71,-1.725 16.31,-1.725 16.31,-2.75 16.71,-2.75
  rectangle: 17.58,1.725 17.98,2.75
  region: 17.98,-1.725 17.58,-1.725 17.58,-2.75 17.98,-2.75
  rectangle: 18.85,1.725 19.25,2.75
  region: 19.25,-1.725 18.85,-1.725 18.85,-2.75 19.25,-2.75
  rectangle: 20.12,1.725 20.52,2.75
  region: 20.52,-1.725 20.12,-1.725 20.12,-2.75 20.52,-2.75
  rectangle: 21.39,1.725 21.79,2.75
  region: 21.79,-1.725 21.39,-1.725 21.39,-2.75 21.79,-2.75
  rectangle: 22.66,1.725 23.06,2.75
  region: 23.06,-1.725 22.66,-1.725 22.66,-2.75 23.06,-2.75
  rectangle: 23.93,1.725 24.33,2.75
  region: 24.33,-1.725 23.93,-1.725 23.93,-2.75 24.33,-2.75
  rectangle: 25.2,1.725 25.6,2.75
  region: 25.6,-1.725 25.2,-1.725 25.2,-2.75 25.6,-2.75
  rectangle: 26.47,1.725 26.87,2.75
  region: 26.87,-1.725 26.47,-1.725 26.47,-2.75 26.87,-2.75
  rectangle: 27.74,1.725 28.14,2.75
  region: 28.14,-1.725 27.74,-1.725 27.74,-2.75 28.14,-2.75

## 1365-92 [mm]
pads (92):
  rect 0.76x2.4 smd: 1(-28.575,-2.95) 2(-28.575,2.95) 3(-27.305,-2.95) 4(-27.305,2.95) 5(-26.035,-2.95) 6(-26.035,2.95) 7(-24.765,-2.95) 8(-24.765,2.95) 9(-23.495,-2.95) 10(-23.495,2.95) 11(-22.225,-2.95) 12(-22.225,2.95) 13(-20.955,-2.95) 14(-20.955,2.95) 15(-19.685,-2.95) 16(-19.685,2.95) 17(-18.415,-2.95) 18(-18.415,2.95) 19(-17.145,-2.95) 20(-17.145,2.95) 21(-15.875,-2.95) 22(-15.875,2.95) 23(-14.605,-2.95) 24(-14.605,2.95) 25(-13.335,-2.95) 26(-13.335,2.95) 27(-12.065,-2.95) 28(-12.065,2.95) 29(-10.795,-2.95) 30(-10.795,2.95) 31(-9.525,-2.95) 32(-9.525,2.95) 33(-8.255,-2.95) 34(-8.255,2.95) 35(-6.985,-2.95) 36(-6.985,2.95) 37(-5.715,-2.95) 38(-5.715,2.95) 39(-4.445,-2.95) 40(-4.445,2.95) 41(-3.175,-2.95) 42(-3.175,2.95) 43(-1.905,-2.95) 44(-1.905,2.95) 45(-0.635,-2.95) 46(-0.635,2.95) 47(0.635,-2.95) 48(0.635,2.95) 49(1.905,-2.95) 50(1.905,2.95) 51(3.175,-2.95) 52(3.175,2.95) 53(4.445,-2.95) 54(4.445,2.95) 55(5.715,-2.95) 56(5.715,2.95) 57(6.985,-2.95) 58(6.985,2.95) 59(8.255,-2.95) 60(8.255,2.95) 61(9.525,-2.95) 62(9.525,2.95) 63(10.795,-2.95) 64(10.795,2.95) 65(12.065,-2.95) 66(12.065,2.95) 67(13.335,-2.95) 68(13.335,2.95) 69(14.605,-2.95) 70(14.605,2.95) 71(15.875,-2.95) 72(15.875,2.95) 73(17.145,-2.95) 74(17.145,2.95) 75(18.415,-2.95) 76(18.415,2.95) 77(19.685,-2.95) 78(19.685,2.95) 79(20.955,-2.95) 80(20.955,2.95) 81(22.225,-2.95) 82(22.225,2.95) 83(23.495,-2.95) 84(23.495,2.95) 85(24.765,-2.95) 86(24.765,2.95) 87(26.035,-2.95) 88(26.035,2.95) 89(27.305,-2.95) 90(27.305,2.95) 91(28.575,-2.95) 92(28.575,2.95)
Top Overlay:
  lines w0.203: -29.11,-1.63 29.105,-1.63 29.105,1.63 -29.11,1.63 -29.11,-1.63
Mechanical 16:
  rectangle: -28.775,1.725 -28.375,2.75
  region: -28.375,-1.725 -28.775,-1.725 -28.775,-2.75 -28.375,-2.75
  rectangle: -27.505,1.725 -27.105,2.75
  region: -27.105,-1.725 -27.505,-1.725 -27.505,-2.75 -27.105,-2.75
  rectangle: -26.235,1.725 -25.835,2.75
  region: -25.835,-1.725 -26.235,-1.725 -26.235,-2.75 -25.835,-2.75
  rectangle: -24.965,1.725 -24.565,2.75
  region: -24.565,-1.725 -24.965,-1.725 -24.965,-2.75 -24.565,-2.75
  rectangle: -23.695,1.725 -23.295,2.75
  region: -23.295,-1.725 -23.695,-1.725 -23.695,-2.75 -23.295,-2.75
  rectangle: -22.425,1.725 -22.025,2.75
  region: -22.025,-1.725 -22.425,-1.725 -22.425,-2.75 -22.025,-2.75
  rectangle: -21.155,1.725 -20.755,2.75
  region: -20.755,-1.725 -21.155,-1.725 -21.155,-2.75 -20.755,-2.75
  rectangle: -19.885,1.725 -19.485,2.75
  region: -19.485,-1.725 -19.885,-1.725 -19.885,-2.75 -19.485,-2.75
  rectangle: -18.615,1.725 -18.215,2.75
  region: -18.215,-1.725 -18.615,-1.725 -18.615,-2.75 -18.215,-2.75
  rectangle: -17.345,1.725 -16.945,2.75
  region: -16.945,-1.725 -17.345,-1.725 -17.345,-2.75 -16.945,-2.75
  rectangle: -16.075,1.725 -15.675,2.75
  region: -15.675,-1.725 -16.075,-1.725 -16.075,-2.75 -15.675,-2.75
  rectangle: -14.805,1.725 -14.405,2.75
  region: -14.405,-1.725 -14.805,-1.725 -14.805,-2.75 -14.405,-2.75
  rectangle: -13.535,1.725 -13.135,2.75
  region: -13.135,-1.725 -13.535,-1.725 -13.535,-2.75 -13.135,-2.75
  rectangle: -12.265,1.725 -11.865,2.75
  region: -11.865,-1.725 -12.265,-1.725 -12.265,-2.75 -11.865,-2.75
  rectangle: -10.995,1.725 -10.595,2.75
  region: -10.595,-1.725 -10.995,-1.725 -10.995,-2.75 -10.595,-2.75
  rectangle: -9.725,1.725 -9.325,2.75
  region: -9.325,-1.725 -9.725,-1.725 -9.725,-2.75 -9.325,-2.75
  rectangle: -8.455,1.725 -8.055,2.75
  region: -8.055,-1.725 -8.455,-1.725 -8.455,-2.75 -8.055,-2.75
  rectangle: -7.185,1.725 -6.785,2.75
  region: -6.785,-1.725 -7.185,-1.725 -7.185,-2.75 -6.785,-2.75
  rectangle: -5.915,1.725 -5.515,2.75
  region: -5.515,-1.725 -5.915,-1.725 -5.915,-2.75 -5.515,-2.75
  rectangle: -4.645,1.725 -4.245,2.75
  region: -4.245,-1.725 -4.645,-1.725 -4.645,-2.75 -4.245,-2.75
  rectangle: -3.375,1.725 -2.975,2.75
  region: -2.975,-1.725 -3.375,-1.725 -3.375,-2.75 -2.975,-2.75
  rectangle: -2.105,1.725 -1.705,2.75
  region: -1.705,-1.725 -2.105,-1.725 -2.105,-2.75 -1.705,-2.75
  rectangle: -0.835,1.725 -0.435,2.75
  region: -0.435,-1.725 -0.835,-1.725 -0.835,-2.75 -0.435,-2.75
  rectangle: 0.435,1.725 0.835,2.75
  region: 0.835,-1.725 0.435,-1.725 0.435,-2.75 0.835,-2.75
  rectangle: 1.705,1.725 2.105,2.75
  region: 2.105,-1.725 1.705,-1.725 1.705,-2.75 2.105,-2.75
  rectangle: 2.975,1.725 3.375,2.75
  region: 3.375,-1.725 2.975,-1.725 2.975,-2.75 3.375,-2.75
  rectangle: 4.245,1.725 4.645,2.75
  region: 4.645,-1.725 4.245,-1.725 4.245,-2.75 4.645,-2.75
  rectangle: 5.515,1.725 5.915,2.75
  region: 5.915,-1.725 5.515,-1.725 5.515,-2.75 5.915,-2.75
  rectangle: 6.785,1.725 7.185,2.75
  region: 7.185,-1.725 6.785,-1.725 6.785,-2.75 7.185,-2.75
  rectangle: 8.055,1.725 8.455,2.75
  region: 8.455,-1.725 8.055,-1.725 8.055,-2.75 8.455,-2.75
  rectangle: 9.325,1.725 9.725,2.75
  region: 9.725,-1.725 9.325,-1.725 9.325,-2.75 9.725,-2.75
  rectangle: 10.595,1.725 10.995,2.75
  region: 10.995,-1.725 10.595,-1.725 10.595,-2.75 10.995,-2.75
  rectangle: 11.865,1.725 12.265,2.75
  region: 12.265,-1.725 11.865,-1.725 11.865,-2.75 12.265,-2.75
  rectangle: 13.135,1.725 13.535,2.75
  region: 13.535,-1.725 13.135,-1.725 13.135,-2.75 13.535,-2.75
  rectangle: 14.405,1.725 14.805,2.75
  region: 14.805,-1.725 14.405,-1.725 14.405,-2.75 14.805,-2.75
  rectangle: 15.675,1.725 16.075,2.75
  region: 16.075,-1.725 15.675,-1.725 15.675,-2.75 16.075,-2.75
  rectangle: 16.945,1.725 17.345,2.75
  region: 17.345,-1.725 16.945,-1.725 16.945,-2.75 17.345,-2.75
  rectangle: 18.215,1.725 18.615,2.75
  region: 18.615,-1.725 18.215,-1.725 18.215,-2.75 18.615,-2.75
  rectangle: 19.485,1.725 19.885,2.75
  region: 19.885,-1.725 19.485,-1.725 19.485,-2.75 19.885,-2.75
  rectangle: 20.755,1.725 21.155,2.75
  region: 21.155,-1.725 20.755,-1.725 20.755,-2.75 21.155,-2.75
  rectangle: 22.025,1.725 22.425,2.75
  region: 22.425,-1.725 22.025,-1.725 22.025,-2.75 22.425,-2.75
  rectangle: 23.295,1.725 23.695,2.75
  region: 23.695,-1.725 23.295,-1.725 23.295,-2.75 23.695,-2.75
  rectangle: 24.565,1.725 24.965,2.75
  region: 24.965,-1.725 24.565,-1.725 24.565,-2.75 24.965,-2.75
  rectangle: 25.835,1.725 26.235,2.75
  region: 26.235,-1.725 25.835,-1.725 25.835,-2.75 26.235,-2.75
  rectangle: 27.105,1.725 27.505,2.75
  region: 27.505,-1.725 27.105,-1.725 27.105,-2.75 27.505,-2.75
  rectangle: 28.375,1.725 28.775,2.75
  region: 28.775,-1.725 28.375,-1.725 28.375,-2.75 28.775,-2.75

## 1365-94 [mm]
pads (94):
  rect 0.76x2.4 smd: 1(-29.21,-2.95) 2(-29.21,2.95) 3(-27.94,-2.95) 4(-27.94,2.95) 5(-26.67,-2.95) 6(-26.67,2.95) 7(-25.4,-2.95) 8(-25.4,2.95) 9(-24.13,-2.95) 10(-24.13,2.95) 11(-22.86,-2.95) 12(-22.86,2.95) 13(-21.59,-2.95) 14(-21.59,2.95) 15(-20.32,-2.95) 16(-20.32,2.95) 17(-19.05,-2.95) 18(-19.05,2.95) 19(-17.78,-2.95) 20(-17.78,2.95) 21(-16.51,-2.95) 22(-16.51,2.95) 23(-15.24,-2.95) 24(-15.24,2.95) 25(-13.97,-2.95) 26(-13.97,2.95) 27(-12.7,-2.95) 28(-12.7,2.95) 29(-11.43,-2.95) 30(-11.43,2.95) 31(-10.16,-2.95) 32(-10.16,2.95) 33(-8.89,-2.95) 34(-8.89,2.95) 35(-7.62,-2.95) 36(-7.62,2.95) 37(-6.35,-2.95) 38(-6.35,2.95) 39(-5.08,-2.95) 40(-5.08,2.95) 41(-3.81,-2.95) 42(-3.81,2.95) 43(-2.54,-2.95) 44(-2.54,2.95) 45(-1.27,-2.95) 46(-1.27,2.95) 47(0,-2.95) 48(0,2.95) 49(1.27,-2.95) 50(1.27,2.95) 51(2.54,-2.95) 52(2.54,2.95) 53(3.81,-2.95) 54(3.81,2.95) 55(5.08,-2.95) 56(5.08,2.95) 57(6.35,-2.95) 58(6.35,2.95) 59(7.62,-2.95) 60(7.62,2.95) 61(8.89,-2.95) 62(8.89,2.95) 63(10.16,-2.95) 64(10.16,2.95) 65(11.43,-2.95) 66(11.43,2.95) 67(12.7,-2.95) 68(12.7,2.95) 69(13.97,-2.95) 70(13.97,2.95) 71(15.24,-2.95) 72(15.24,2.95) 73(16.51,-2.95) 74(16.51,2.95) 75(17.78,-2.95) 76(17.78,2.95) 77(19.05,-2.95) 78(19.05,2.95) 79(20.32,-2.95) 80(20.32,2.95) 81(21.59,-2.95) 82(21.59,2.95) 83(22.86,-2.95) 84(22.86,2.95) 85(24.13,-2.95) 86(24.13,2.95) 87(25.4,-2.95) 88(25.4,2.95) 89(26.67,-2.95) 90(26.67,2.95) 91(27.94,-2.95) 92(27.94,2.95) 93(29.21,-2.95) 94(29.21,2.95)
Top Overlay:
  lines w0.203: -29.745,-1.63 29.74,-1.63 29.74,1.63 -29.745,1.63 -29.745,-1.63
Mechanical 16:
  rectangle: -29.41,1.725 -29.01,2.75
  region: -29.01,-1.725 -29.41,-1.725 -29.41,-2.75 -29.01,-2.75
  rectangle: -28.14,1.725 -27.74,2.75
  region: -27.74,-1.725 -28.14,-1.725 -28.14,-2.75 -27.74,-2.75
  rectangle: -26.87,1.725 -26.47,2.75
  region: -26.47,-1.725 -26.87,-1.725 -26.87,-2.75 -26.47,-2.75
  rectangle: -25.6,1.725 -25.2,2.75
  region: -25.2,-1.725 -25.6,-1.725 -25.6,-2.75 -25.2,-2.75
  rectangle: -24.33,1.725 -23.93,2.75
  region: -23.93,-1.725 -24.33,-1.725 -24.33,-2.75 -23.93,-2.75
  rectangle: -23.06,1.725 -22.66,2.75
  region: -22.66,-1.725 -23.06,-1.725 -23.06,-2.75 -22.66,-2.75
  rectangle: -21.79,1.725 -21.39,2.75
  region: -21.39,-1.725 -21.79,-1.725 -21.79,-2.75 -21.39,-2.75
  rectangle: -20.52,1.725 -20.12,2.75
  region: -20.12,-1.725 -20.52,-1.725 -20.52,-2.75 -20.12,-2.75
  rectangle: -19.25,1.725 -18.85,2.75
  region: -18.85,-1.725 -19.25,-1.725 -19.25,-2.75 -18.85,-2.75
  rectangle: -17.98,1.725 -17.58,2.75
  region: -17.58,-1.725 -17.98,-1.725 -17.98,-2.75 -17.58,-2.75
  rectangle: -16.71,1.725 -16.31,2.75
  region: -16.31,-1.725 -16.71,-1.725 -16.71,-2.75 -16.31,-2.75
  rectangle: -15.44,1.725 -15.04,2.75
  region: -15.04,-1.725 -15.44,-1.725 -15.44,-2.75 -15.04,-2.75
  rectangle: -14.17,1.725 -13.77,2.75
  region: -13.77,-1.725 -14.17,-1.725 -14.17,-2.75 -13.77,-2.75
  rectangle: -12.9,1.725 -12.5,2.75
  region: -12.5,-1.725 -12.9,-1.725 -12.9,-2.75 -12.5,-2.75
  rectangle: -11.63,1.725 -11.23,2.75
  region: -11.23,-1.725 -11.63,-1.725 -11.63,-2.75 -11.23,-2.75
  rectangle: -10.36,1.725 -9.96,2.75
  region: -9.96,-1.725 -10.36,-1.725 -10.36,-2.75 -9.96,-2.75
  rectangle: -9.09,1.725 -8.69,2.75
  region: -8.69,-1.725 -9.09,-1.725 -9.09,-2.75 -8.69,-2.75
  rectangle: -7.82,1.725 -7.42,2.75
  region: -7.42,-1.725 -7.82,-1.725 -7.82,-2.75 -7.42,-2.75
  rectangle: -6.55,1.725 -6.15,2.75
  region: -6.15,-1.725 -6.55,-1.725 -6.55,-2.75 -6.15,-2.75
  rectangle: -5.28,1.725 -4.88,2.75
  region: -4.88,-1.725 -5.28,-1.725 -5.28,-2.75 -4.88,-2.75
  rectangle: -4.01,1.725 -3.61,2.75
  region: -3.61,-1.725 -4.01,-1.725 -4.01,-2.75 -3.61,-2.75
  rectangle: -2.74,1.725 -2.34,2.75
  region: -2.34,-1.725 -2.74,-1.725 -2.74,-2.75 -2.34,-2.75
  rectangle: -1.47,1.725 -1.07,2.75
  region: -1.07,-1.725 -1.47,-1.725 -1.47,-2.75 -1.07,-2.75
  rectangle: -0.2,1.725 0.2,2.75
  region: 0.2,-1.725 -0.2,-1.725 -0.2,-2.75 0.2,-2.75
  rectangle: 1.07,1.725 1.47,2.75
  region: 1.47,-1.725 1.07,-1.725 1.07,-2.75 1.47,-2.75
  rectangle: 2.34,1.725 2.74,2.75
  region: 2.74,-1.725 2.34,-1.725 2.34,-2.75 2.74,-2.75
  rectangle: 3.61,1.725 4.01,2.75
  region: 4.01,-1.725 3.61,-1.725 3.61,-2.75 4.01,-2.75
  rectangle: 4.88,1.725 5.28,2.75
  region: 5.28,-1.725 4.88,-1.725 4.88,-2.75 5.28,-2.75
  rectangle: 6.15,1.725 6.55,2.75
  region: 6.55,-1.725 6.15,-1.725 6.15,-2.75 6.55,-2.75
  rectangle: 7.42,1.725 7.82,2.75
  region: 7.82,-1.725 7.42,-1.725 7.42,-2.75 7.82,-2.75
  rectangle: 8.69,1.725 9.09,2.75
  region: 9.09,-1.725 8.69,-1.725 8.69,-2.75 9.09,-2.75
  rectangle: 9.96,1.725 10.36,2.75
  region: 10.36,-1.725 9.96,-1.725 9.96,-2.75 10.36,-2.75
  rectangle: 11.23,1.725 11.63,2.75
  region: 11.63,-1.725 11.23,-1.725 11.23,-2.75 11.63,-2.75
  rectangle: 12.5,1.725 12.9,2.75
  region: 12.9,-1.725 12.5,-1.725 12.5,-2.75 12.9,-2.75
  rectangle: 13.77,1.725 14.17,2.75
  region: 14.17,-1.725 13.77,-1.725 13.77,-2.75 14.17,-2.75
  rectangle: 15.04,1.725 15.44,2.75
  region: 15.44,-1.725 15.04,-1.725 15.04,-2.75 15.44,-2.75
  rectangle: 16.31,1.725 16.71,2.75
  region: 16.71,-1.725 16.31,-1.725 16.31,-2.75 16.71,-2.75
  rectangle: 17.58,1.725 17.98,2.75
  region: 17.98,-1.725 17.58,-1.725 17.58,-2.75 17.98,-2.75
  rectangle: 18.85,1.725 19.25,2.75
  region: 19.25,-1.725 18.85,-1.725 18.85,-2.75 19.25,-2.75
  rectangle: 20.12,1.725 20.52,2.75
  region: 20.52,-1.725 20.12,-1.725 20.12,-2.75 20.52,-2.75
  rectangle: 21.39,1.725 21.79,2.75
  region: 21.79,-1.725 21.39,-1.725 21.39,-2.75 21.79,-2.75
  rectangle: 22.66,1.725 23.06,2.75
  region: 23.06,-1.725 22.66,-1.725 22.66,-2.75 23.06,-2.75
  rectangle: 23.93,1.725 24.33,2.75
  region: 24.33,-1.725 23.93,-1.725 23.93,-2.75 24.33,-2.75
  rectangle: 25.2,1.725 25.6,2.75
  region: 25.6,-1.725 25.2,-1.725 25.2,-2.75 25.6,-2.75
  rectangle: 26.47,1.725 26.87,2.75
  region: 26.87,-1.725 26.47,-1.725 26.47,-2.75 26.87,-2.75
  rectangle: 27.74,1.725 28.14,2.75
  region: 28.14,-1.725 27.74,-1.725 27.74,-2.75 28.14,-2.75
  rectangle: 29.01,1.725 29.41,2.75
  region: 29.41,-1.725 29.01,-1.725 29.01,-2.75 29.41,-2.75

## 1365-96 [mm]
pads (96):
  rect 0.76x2.4 smd: 1(-29.845,-2.95) 2(-29.845,2.95) 3(-28.575,-2.95) 4(-28.575,2.95) 5(-27.305,-2.95) 6(-27.305,2.95) 7(-26.035,-2.95) 8(-26.035,2.95) 9(-24.765,-2.95) 10(-24.765,2.95) 11(-23.495,-2.95) 12(-23.495,2.95) 13(-22.225,-2.95) 14(-22.225,2.95) 15(-20.955,-2.95) 16(-20.955,2.95) 17(-19.685,-2.95) 18(-19.685,2.95) 19(-18.415,-2.95) 20(-18.415,2.95) 21(-17.145,-2.95) 22(-17.145,2.95) 23(-15.875,-2.95) 24(-15.875,2.95) 25(-14.605,-2.95) 26(-14.605,2.95) 27(-13.335,-2.95) 28(-13.335,2.95) 29(-12.065,-2.95) 30(-12.065,2.95) 31(-10.795,-2.95) 32(-10.795,2.95) 33(-9.525,-2.95) 34(-9.525,2.95) 35(-8.255,-2.95) 36(-8.255,2.95) 37(-6.985,-2.95) 38(-6.985,2.95) 39(-5.715,-2.95) 40(-5.715,2.95) 41(-4.445,-2.95) 42(-4.445,2.95) 43(-3.175,-2.95) 44(-3.175,2.95) 45(-1.905,-2.95) 46(-1.905,2.95) 47(-0.635,-2.95) 48(-0.635,2.95) 49(0.635,-2.95) 50(0.635,2.95) 51(1.905,-2.95) 52(1.905,2.95) 53(3.175,-2.95) 54(3.175,2.95) 55(4.445,-2.95) 56(4.445,2.95) 57(5.715,-2.95) 58(5.715,2.95) 59(6.985,-2.95) 60(6.985,2.95) 61(8.255,-2.95) 62(8.255,2.95) 63(9.525,-2.95) 64(9.525,2.95) 65(10.795,-2.95) 66(10.795,2.95) 67(12.065,-2.95) 68(12.065,2.95) 69(13.335,-2.95) 70(13.335,2.95) 71(14.605,-2.95) 72(14.605,2.95) 73(15.875,-2.95) 74(15.875,2.95) 75(17.145,-2.95) 76(17.145,2.95) 77(18.415,-2.95) 78(18.415,2.95) 79(19.685,-2.95) 80(19.685,2.95) 81(20.955,-2.95) 82(20.955,2.95) 83(22.225,-2.95) 84(22.225,2.95) 85(23.495,-2.95) 86(23.495,2.95) 87(24.765,-2.95) 88(24.765,2.95) 89(26.035,-2.95) 90(26.035,2.95) 91(27.305,-2.95) 92(27.305,2.95) 93(28.575,-2.95) 94(28.575,2.95) 95(29.845,-2.95) 96(29.845,2.95)
Top Overlay:
  lines w0.203: -30.38,-1.63 30.375,-1.63 30.375,1.63 -30.38,1.63 -30.38,-1.63
Mechanical 16:
  rectangle: -30.045,1.725 -29.645,2.75
  region: -29.645,-1.725 -30.045,-1.725 -30.045,-2.75 -29.645,-2.75
  rectangle: -28.775,1.725 -28.375,2.75
  region: -28.375,-1.725 -28.775,-1.725 -28.775,-2.75 -28.375,-2.75
  rectangle: -27.505,1.725 -27.105,2.75
  region: -27.105,-1.725 -27.505,-1.725 -27.505,-2.75 -27.105,-2.75
  rectangle: -26.235,1.725 -25.835,2.75
  region: -25.835,-1.725 -26.235,-1.725 -26.235,-2.75 -25.835,-2.75
  rectangle: -24.965,1.725 -24.565,2.75
  region: -24.565,-1.725 -24.965,-1.725 -24.965,-2.75 -24.565,-2.75
  rectangle: -23.695,1.725 -23.295,2.75
  region: -23.295,-1.725 -23.695,-1.725 -23.695,-2.75 -23.295,-2.75
  rectangle: -22.425,1.725 -22.025,2.75
  region: -22.025,-1.725 -22.425,-1.725 -22.425,-2.75 -22.025,-2.75
  rectangle: -21.155,1.725 -20.755,2.75
  region: -20.755,-1.725 -21.155,-1.725 -21.155,-2.75 -20.755,-2.75
  rectangle: -19.885,1.725 -19.485,2.75
  region: -19.485,-1.725 -19.885,-1.725 -19.885,-2.75 -19.485,-2.75
  rectangle: -18.615,1.725 -18.215,2.75
  region: -18.215,-1.725 -18.615,-1.725 -18.615,-2.75 -18.215,-2.75
  rectangle: -17.345,1.725 -16.945,2.75
  region: -16.945,-1.725 -17.345,-1.725 -17.345,-2.75 -16.945,-2.75
  rectangle: -16.075,1.725 -15.675,2.75
  region: -15.675,-1.725 -16.075,-1.725 -16.075,-2.75 -15.675,-2.75
  rectangle: -14.805,1.725 -14.405,2.75
  region: -14.405,-1.725 -14.805,-1.725 -14.805,-2.75 -14.405,-2.75
  rectangle: -13.535,1.725 -13.135,2.75
  region: -13.135,-1.725 -13.535,-1.725 -13.535,-2.75 -13.135,-2.75
  rectangle: -12.265,1.725 -11.865,2.75
  region: -11.865,-1.725 -12.265,-1.725 -12.265,-2.75 -11.865,-2.75
  rectangle: -10.995,1.725 -10.595,2.75
  region: -10.595,-1.725 -10.995,-1.725 -10.995,-2.75 -10.595,-2.75
  rectangle: -9.725,1.725 -9.325,2.75
  region: -9.325,-1.725 -9.725,-1.725 -9.725,-2.75 -9.325,-2.75
  rectangle: -8.455,1.725 -8.055,2.75
  region: -8.055,-1.725 -8.455,-1.725 -8.455,-2.75 -8.055,-2.75
  rectangle: -7.185,1.725 -6.785,2.75
  region: -6.785,-1.725 -7.185,-1.725 -7.185,-2.75 -6.785,-2.75
  rectangle: -5.915,1.725 -5.515,2.75
  region: -5.515,-1.725 -5.915,-1.725 -5.915,-2.75 -5.515,-2.75
  rectangle: -4.645,1.725 -4.245,2.75
  region: -4.245,-1.725 -4.645,-1.725 -4.645,-2.75 -4.245,-2.75
  rectangle: -3.375,1.725 -2.975,2.75
  region: -2.975,-1.725 -3.375,-1.725 -3.375,-2.75 -2.975,-2.75
  rectangle: -2.105,1.725 -1.705,2.75
  region: -1.705,-1.725 -2.105,-1.725 -2.105,-2.75 -1.705,-2.75
  rectangle: -0.835,1.725 -0.435,2.75
  region: -0.435,-1.725 -0.835,-1.725 -0.835,-2.75 -0.435,-2.75
  rectangle: 0.435,1.725 0.835,2.75
  region: 0.835,-1.725 0.435,-1.725 0.435,-2.75 0.835,-2.75
  rectangle: 1.705,1.725 2.105,2.75
  region: 2.105,-1.725 1.705,-1.725 1.705,-2.75 2.105,-2.75
  rectangle: 2.975,1.725 3.375,2.75
  region: 3.375,-1.725 2.975,-1.725 2.975,-2.75 3.375,-2.75
  rectangle: 4.245,1.725 4.645,2.75
  region: 4.645,-1.725 4.245,-1.725 4.245,-2.75 4.645,-2.75
  rectangle: 5.515,1.725 5.915,2.75
  region: 5.915,-1.725 5.515,-1.725 5.515,-2.75 5.915,-2.75
  rectangle: 6.785,1.725 7.185,2.75
  region: 7.185,-1.725 6.785,-1.725 6.785,-2.75 7.185,-2.75
  rectangle: 8.055,1.725 8.455,2.75
  region: 8.455,-1.725 8.055,-1.725 8.055,-2.75 8.455,-2.75
  rectangle: 9.325,1.725 9.725,2.75
  region: 9.725,-1.725 9.325,-1.725 9.325,-2.75 9.725,-2.75
  rectangle: 10.595,1.725 10.995,2.75
  region: 10.995,-1.725 10.595,-1.725 10.595,-2.75 10.995,-2.75
  rectangle: 11.865,1.725 12.265,2.75
  region: 12.265,-1.725 11.865,-1.725 11.865,-2.75 12.265,-2.75
  rectangle: 13.135,1.725 13.535,2.75
  region: 13.535,-1.725 13.135,-1.725 13.135,-2.75 13.535,-2.75
  rectangle: 14.405,1.725 14.805,2.75
  region: 14.805,-1.725 14.405,-1.725 14.405,-2.75 14.805,-2.75
  rectangle: 15.675,1.725 16.075,2.75
  region: 16.075,-1.725 15.675,-1.725 15.675,-2.75 16.075,-2.75
  rectangle: 16.945,1.725 17.345,2.75
  region: 17.345,-1.725 16.945,-1.725 16.945,-2.75 17.345,-2.75
  rectangle: 18.215,1.725 18.615,2.75
  region: 18.615,-1.725 18.215,-1.725 18.215,-2.75 18.615,-2.75
  rectangle: 19.485,1.725 19.885,2.75
  region: 19.885,-1.725 19.485,-1.725 19.485,-2.75 19.885,-2.75
  rectangle: 20.755,1.725 21.155,2.75
  region: 21.155,-1.725 20.755,-1.725 20.755,-2.75 21.155,-2.75
  rectangle: 22.025,1.725 22.425,2.75
  region: 22.425,-1.725 22.025,-1.725 22.025,-2.75 22.425,-2.75
  rectangle: 23.295,1.725 23.695,2.75
  region: 23.695,-1.725 23.295,-1.725 23.295,-2.75 23.695,-2.75
  rectangle: 24.565,1.725 24.965,2.75
  region: 24.965,-1.725 24.565,-1.725 24.565,-2.75 24.965,-2.75
  rectangle: 25.835,1.725 26.235,2.75
  region: 26.235,-1.725 25.835,-1.725 25.835,-2.75 26.235,-2.75
  rectangle: 27.105,1.725 27.505,2.75
  region: 27.505,-1.725 27.105,-1.725 27.105,-2.75 27.505,-2.75
  rectangle: 28.375,1.725 28.775,2.75
  region: 28.775,-1.725 28.375,-1.725 28.375,-2.75 28.775,-2.75
  rectangle: 29.645,1.725 30.045,2.75
  region: 30.045,-1.725 29.645,-1.725 29.645,-2.75 30.045,-2.75